# EAGLE library part M17 (library work)
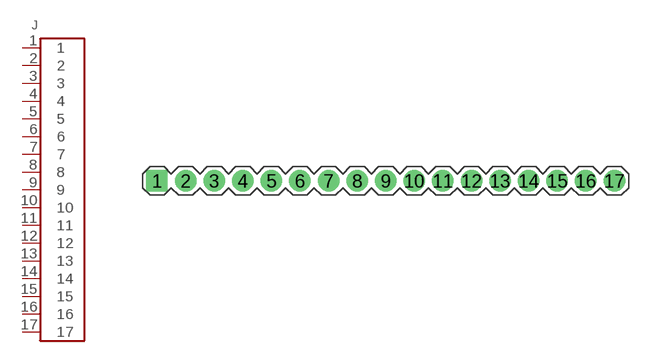
[diagram p15: symbol with the pads of M17; footprint M17]

Designator prefix J

## M17  [M17]
1  1
2  2
3  3
4  4
5  5
6  6
7  7
8  8
9  9
10  10
11  11
12  12
13  13
14  14
15  15
16  16
17  17

## Footprint M17 (pad centres in mm)
drill 1.016 pad 1.905 square: 1 -20.32,0
drill 1.016 pad 1.905: 2 -17.78,0; 3 -15.24,0; 4 -12.7,0; 5 -10.16,0; 6 -7.62,0; 7 -5.08,0; 8 -2.54,0; 9 0,0; 10 2.54,0; 11 5.08,0; 12 7.62,0; 13 10.16,0; 14 12.7,0; 15 15.24,0; 16 17.78,0; 17 20.32,0